# Altium schematic symbol library GSRC.Schlib: 1 symbol
Pins are listed as number, name and electrical type; pins without a type are passive.

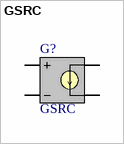
[diagram p0: symbol GSRC]

## GSRC
designator G?
Voltage Controlled Current Source
pins: 1 NC+, 2 NC-, 3 N+, 4 N-